# Altium footprint library pinheader_P6R1_SMD.PcbLib: 1 footprints
Each footprint in its own frame and in the unit in brackets; x right, y up, seen from the top. Pads: shape width x height; smd on the part's side, far side on the other; paste and mask are expansions set on the pad; w line width, h text height; cw(c..) or ccw(c..) is an arc to the next point about the centre after c.
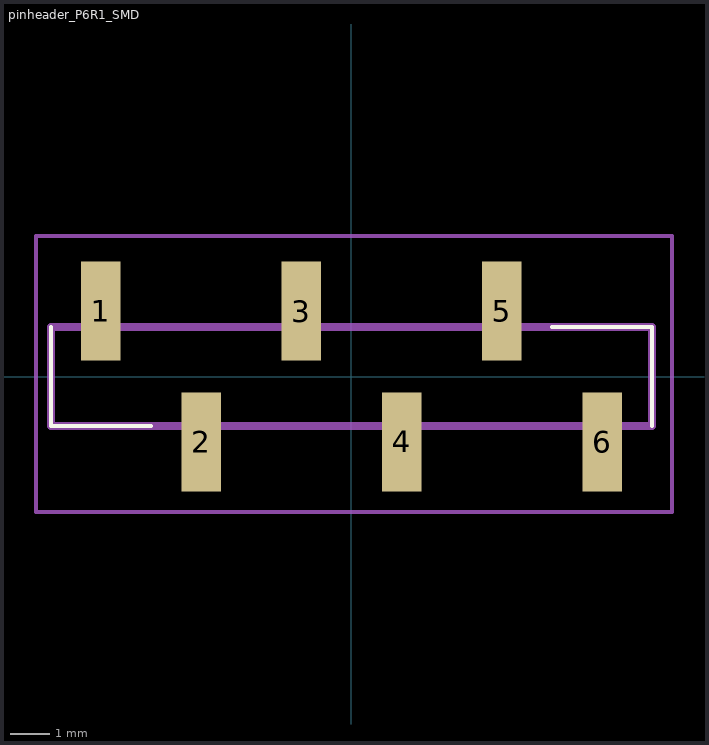
[diagram p0: the footprint, top view; thin cyan lines are the x and y axes]

## pinheader_P6R1_SMD [mm]
pads (6):
  rect 1x2.51 smd: 1(-6.35,1.655) 2(-3.81,-1.655) 3(-1.27,1.655) 4(1.27,-1.655) 5(3.81,1.655) 6(6.35,-1.655)
Top Overlay:
  lines w0.1: -7.62,1.25 -7.62,-1.25 -5.08,-1.25 ; 5.08,1.25 7.62,1.25 7.62,-1.25
Top 3D Body:
  lines w0.2: -7.62,-1.25 7.62,-1.25 7.62,1.25 -7.62,1.25 -7.62,-1.25
Top Courtyard:
  lines w0.1: -8.001,-3.429 8.128,-3.429 8.128,3.556 -8.001,3.556 -8.001,-3.429
3D body "m20-8770642.stp": height 9.9, standoff -0.03, extent -7.62,-2.54 7.62,2.54